# EAGLE library part STM8L101F3P6 (library stm8)
STM8 STM8S Microcontroller IC 8-Bit 16MHz 8KB (8K x 8) FLASH 20-TSSOP
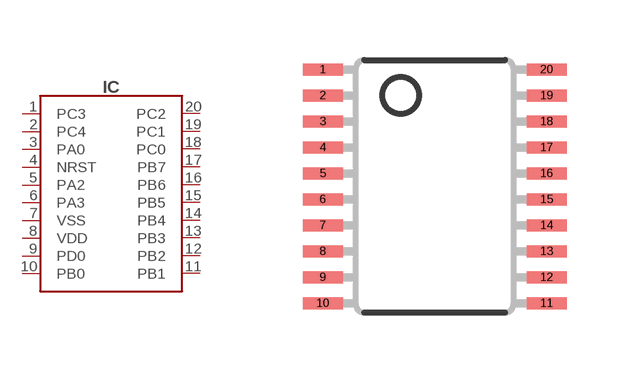
[diagram p5: symbol with the pads of TSSOP20; footprint TSSOP20]

Designator prefix IC

## STM8L101F3P6 (DIGIKEY#: 497-11556-ND; MANF: STMicroelectronics; MANF#: STM8L101F3P6)  [TSSOP20]
1  PC3
2  PC4
3  PA0
4  NRST
5  PA2
6  PA3
7  VSS
8  VDD
9  PD0
10  PB0
11  PB1
12  PB2
13  PB3
14  PB4
15  PB5
16  PB6
17  PB7
18  PC0
19  PC1
20  PC2

## Footprint TSSOP20 (pad centres in mm)
MOLDED TSSOP JEDEC, 5 x 4.4 x 9.9 mm Body 16 LD, 0.65mm Pitch Source: http://www.national.com/packaging/mkt/mtc16.pdf 3D model <https://grabcad.com/library/msop-and-tssop-packages-1>
smd 1 x 0.3: 1 -2.8,2.925; 2 -2.8,2.275; 3 -2.8,1.625; 4 -2.8,0.975; 5 -2.8,0.325; 6 -2.8,-0.325; 7 -2.8,-0.975; 8 -2.8,-1.625; 9 -2.8,-2.275; 10 -2.8,-2.925; 11 2.8,-2.925; 12 2.8,-2.275; 13 2.8,-1.625; 14 2.8,-0.975; 15 2.8,-0.325; 16 2.8,0.325; 17 2.8,0.975; 18 2.8,1.625; 19 2.8,2.275; 20 2.8,2.925